# Altium footprint library PCB1.PcbLib: 6 footprints
Each footprint in its own frame and in the unit in brackets; x right, y up, seen from the top. Pads: shape width x height; smd on the part's side, far side on the other; paste and mask are expansions set on the pad; w line width, h text height; cw(c..) or ccw(c..) is an arc to the next point about the centre after c.
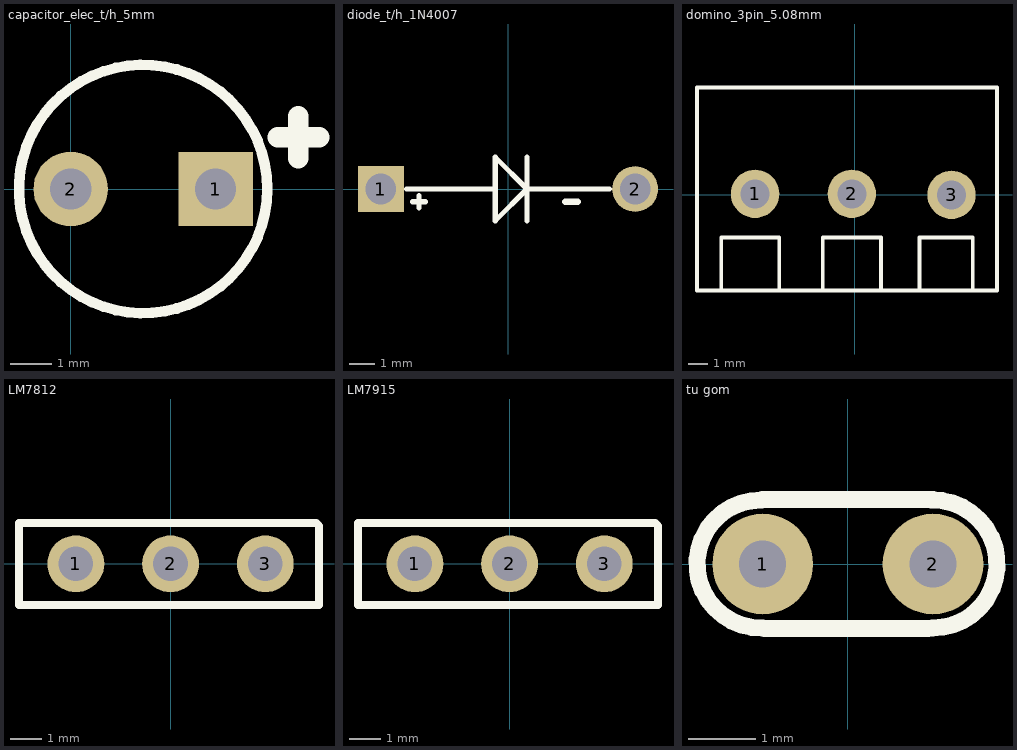
[diagram p0: the footprints below, top view; thin cyan lines are the x and y axes]

## capacitor_elec_t/h_5mm [mm]
pads (2):
  rect 1.8x1.8 hole 1: 1(3.5,0)
  round 1.8 hole 1: 2(0,0)
Top Overlay:
  circle w0.254: c1.75,0 r3
  lines w0.5: 5,1.25 6,1.25 ; 5.5,0.75 5.5,1.75
3D body "10uF 63V D5xH11mm AiSHi.stp": height 12, standoff -3, extent -1.401,-3.15 4.91,3.15

## diode_t/h_1N4007 [mm]
pads (2):
  rect 1.8x1.8 hole 1.2: 1(-5,0)
  round 1.8 hole 1.2: 2(5,0)
Top Overlay:
  lines w0.2: -4,0 -0.5,0 ; -3.75,-0.5 -3.25,-0.5 ; -3.5,-0.75 -3.5,-0.25 ; 0.75,-1.25 0.75,1.25 ; 4,0 0.75,0 ; -0.5,0 -0.5,-1.25 0.75,0 ; -0.5,0 -0.5,1.25 0.75,0
  lines w0.254: 2.25,-0.5 2.75,-0.5
3D body "Diode1N4007AssemblySTEP.STEP": height 2.78, standoff -2.95, extent -5.508,-1.5 5.508,1.2

## domino_3pin_5.08mm [mm]
pads (3):
  round 2.5 hole 1.5: 1(-5.15,0.05) 2(-0.15,0.05) 3(5,0)
Top Overlay:
  lines w0.2: -3.9,-4.95 -3.9,-2.2 -6.9,-2.2 ; -1.65,-4.95 -1.65,-2.2 1.35,-2.2 1.35,-4.95 3.35,-4.95 3.35,-2.2 6.1,-2.2 6.1,-4.95 ; -6.9,-2.2 -6.9,-4.95 -6.9,-2.2 ; -8.15,-4.95 -8.15,5.55 7.35,5.55 7.35,-4.95 -8.15,-4.95
3D body "DG129-5.08-03P-14-00AH.STEP": height 19.5, standoff -3.5, extent -8.32,-4.95 7.52,5.55

## LM7812 [mm]
pads (3):
  round 1.8 hole 1.1: 1(-3,0) 2(0,0) 3(3,0)
Top Overlay:
  lines w0.254: -4.8,-1.3 -4.8,1.287 4.613,1.287 4.7,1.2 4.7,-1.3 -4.8,-1.3
3D body "Regulador LM7812.step": height 19.6, standoff -9.6, extent -5.15,-1.6 5.15,1.7

## LM7915 [mm]
pads (3):
  round 1.8 hole 1.1: 1(-3,0) 2(0,0) 3(3,0)
Top Overlay:
  lines w0.254: -4.8,-1.3 -4.8,1.287 4.613,1.287 4.7,1.2 4.7,-1.3 -4.8,-1.3
3D body "Regulador LM7812.step": height 19.6, standoff -9.6, extent -5.15,-1.6 5.15,1.7

## tu gom [mm] "Tu gom mini"
pads (2):
  round 1.5 hole 0.7: 1(-1.27,0) 2(1.27,0)
Top Overlay:
  lines w0.254: -1.285,0.955 ccw(c-1.295,0) -1.27,-0.954 ; -1.27,0.965 1.27,0.965 ; -1.245,-0.965 1.194,-0.965 ; 1.245,0.954 cw(c1.27,0) 1.259,-0.955
3D body "User Library-Cap 100n.step": height 6.12, standoff -1.8, extent -2.918,-0.848 2.921,0.848